# Altium integrated library AdaptedComponents.IntLib: 7 symbols
Pins are listed as number, name and electrical type; pins without a type are passive.

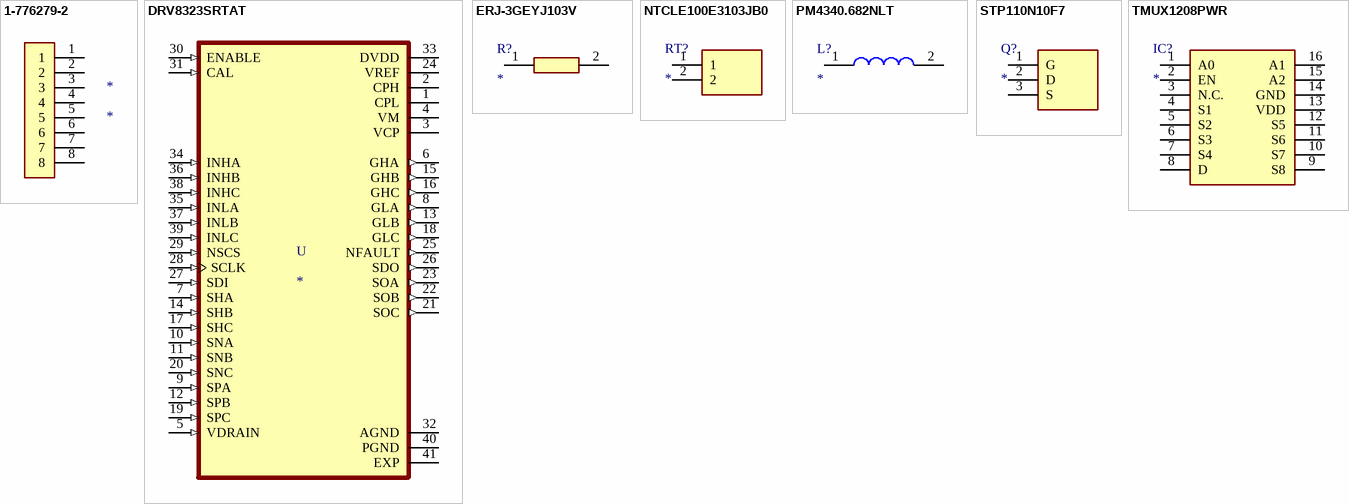
[diagram p0: symbols 1-776279-2 to TMUX1208PWR]

## 1-776279-2
designator *
footprint TE_1-776279-2
pins: 1, 2, 3, 4, 5, 6, 7, 8

## DRV8323SRTAT
designator U
Multiphase Motor Driver Power MOSFET SPI 40-WQFN _6x6_; MF: Texas Instruments; MP: DRV8323SRTAT; SnapEDA_Link: https://www.snapeda.com/parts/DRV8323SRTAT/Texas%20Instruments/view-part/1675025/?ref=snap; Price: None; Package: WQFN-40 Texas Instruments; Value: *; Availability: Unavailable
footprint QFN50P600X600X80-41N415X415
pins: 1 CPL (power), 2 CPH (power), 3 VCP (power), 4 VM (power), 5 VDRAIN (in), 6 GHA (out), 7 SHA (in), 8 GLA (out), 9 SPA (in), 10 SNA (in), 11 SNB (in), 12 SPB (in), 13 GLB (out), 14 SHB (in), 15 GHB (out), 16 GHC (out), 17 SHC (in), 18 GLC (out), 19 SPC (in), 20 SNC (in), 21 SOC (out), 22 SOB (out), 23 SOA (out), 24 VREF (power), 25 NFAULT (out), 26 SDO (out), 27 SDI (in), 28 SCLK (in), 29 NSCS (in), 30 ENABLE (in), 31 CAL (in), 32 AGND (power), 33 DVDD (power), 34 INHA (in), 35 INLA (in), 36 INHB (in), 37 INLB (in), 38 INHC (in), 39 INLC (in), 40 PGND (power), 41 EXP (power)

## ERJ-3GEYJ103V
designator R?
Resistor; Manufacturer_Name: Panasonic; Manufacturer_Part_Number: ERJ-3GEYJ103V; Datasheet Link: http://docs-emea.rs-online.com/webdocs/13ba/0900766b813ba21b.pdf; Height: 0.55mm; Mouser Part Number: 667-ERJ-3GEYJ103V; Mouser Price/Stock: https://www.mouser.co.uk/ProductDetail/Panasonic/ERJ-3GEYJ103V/?qs=66DK8nO8gJBWgc%252B0VNNxzg%3D%3D; Arrow Part Number: ERJ-3GEYJ103V; Arrow Price/Stock: https://www.arrow.com/en/products/erj-3geyj103v/panasonic
footprint RESC1608X55N
pins: 1, 2

## NTCLE100E3103JB0
designator RT?
Thermistor; Manufacturer_Name: Vishay; Manufacturer_Part_Number: NTCLE100E3103JB0; Datasheet Link: https://www.mouser.com/datasheet/2/427/ntcle100-222385.pdf; Height: 10mm; Mouser Part Number: 594-2381-640-63103; Mouser Price/Stock: https://www.mouser.co.uk/ProductDetail/Vishay-BC-Components/NTCLE100E3103JB0/?qs=MSh2oj3GFQcs%2FteGkdbngw%3D%3D; Arrow Part Number: NTCLE100E3103JB0; Arrow Price/Stock: https://www.arrow.com/en/products/ntcle100e3103jb0/vishay
footprint NTCLE100E3103JB0
pins: 1, 2

## PM4340.682NLT
designator L?
Inductor; Manufacturer_Name: Pulse; Manufacturer_Part_Number: PM4340.682NLT; Datasheet Link: https://eu.mouser.com/ProductDetail/Pulse-Electronics/PM4345682NLT?qs=OTrKUuiFdkYTz4rt1sdWWw%3D%3D; Height: 2mm
footprint PM4340682NLT
pins: 1, 2

## STP110N10F7
designator Q?
Transistor; Manufacturer_Name: STMicroelectronics; Manufacturer_Part_Number: STP110N10F7; Description: STMICROELECTRONICS - STP110N10F7 - MOSFET Transistor; Datasheet Link: http://www.st.com/web/en/resource/technical/document/datasheet/DM00072347.pdf; Height: 4.6mm; Mouser Part Number: 511-STP110N10F7; Mouser Price/Stock: https://www.mouser.com/Search/Refine.aspx?Keyword=511-STP110N10F7
footprint TO255P460X1020X2008-3P
pins: 1 G, 2 D, 3 S

## TMUX1208PWR
designator IC?
Integrated Circuit; Manufacturer_Name: Texas Instruments; Manufacturer_Part_Number: TMUX1208PWR; Datasheet Link: http://www.ti.com/lit/gpn/tmux1208; Height: 1.2mm; Mouser Part Number: 595-TMUX1208PWR; Mouser Price/Stock: https://www.mouser.co.uk/ProductDetail/Texas-Instruments/TMUX1208PWR/?qs=lc2O%252BfHJPVbYdIGs2%2FdugA%3D%3D; Arrow Part Number: TMUX1208PWR; Arrow Price/Stock: https://www.arrow.com/en/products/tmux1208pwr/texas-instruments
footprint SOP65P640X120-16N
pins: 1 A0, 2 EN, 3 N.C., 4 S1, 5 S2, 6 S3, 7 S4, 8 D, 9 S8, 10 S7, 11 S6, 12 S5, 13 VDD, 14 GND, 15 A2, 16 A1